# Altium integrated library Linear Technology Power Management Battery Management.IntLib: 626 symbols (part 10 of 56)
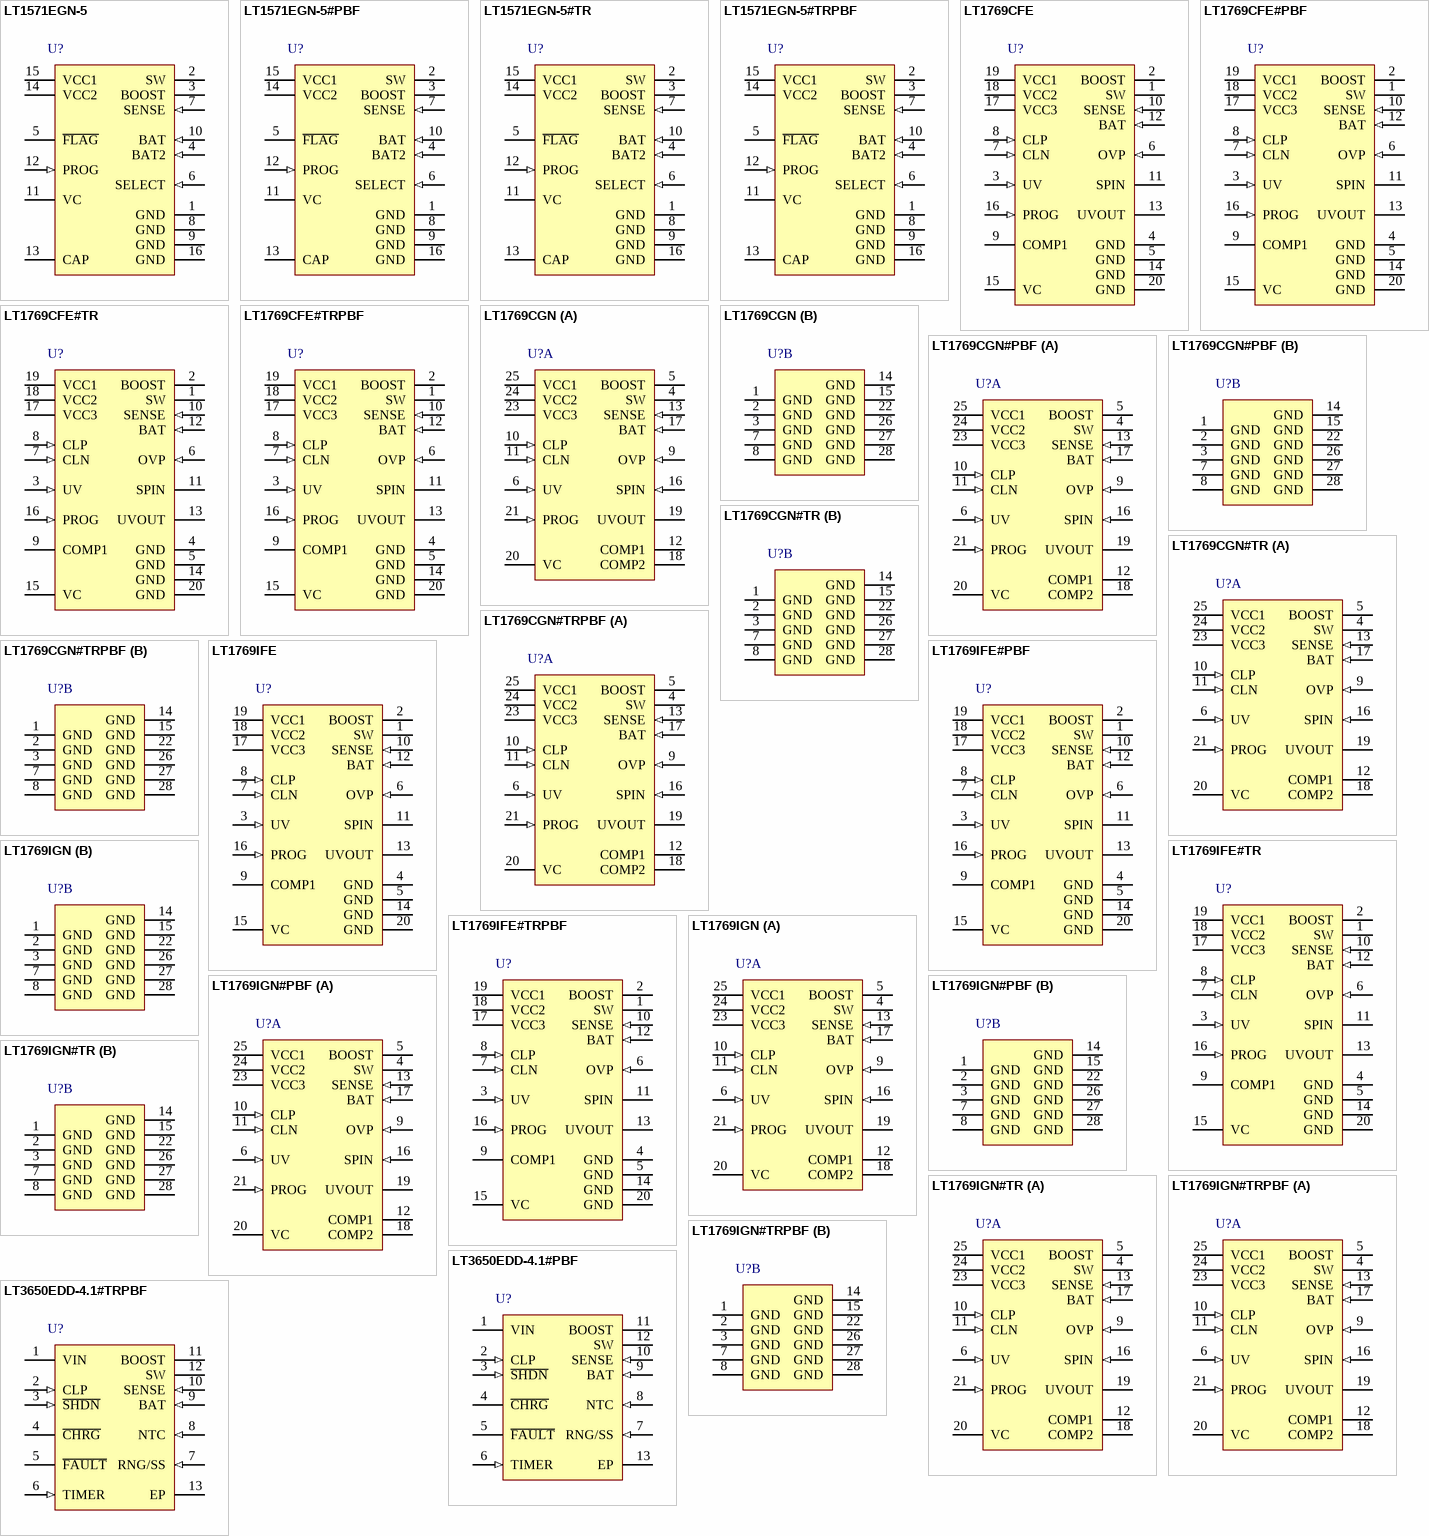
[diagram p31: symbols LT1571EGN-5 to LT3650EDD-4.1#TRPBF]

## LT1769IFE#TRPBF
designator U?
Constant-Current / Constant-Voltage 2 A Battery Charger with Input Current Limiting, 7 to 29 V Vin, 20-pin SOP (FE-20-EPV-CB), -40 to 85 degC, Pb-Free, Tape and Reel; Manufacturer: Linear Technology; PartNumber: LT1769IFE#TRPBF; Battery Chemistry: Li-Ion, Li-Polymer, NiCd, NiMH, Lead Acid; Charge Termination: Microcontroller; Float Voltage: Adj; Max Charge Current(A): 2; Number of Cells: 1 to 4 (Li), 1 to 12 (Ni); Type of Charger: Switching; Vin Max(V): 29; Vin Min(V): 7; DatasheetVersion: Rev. A; PackageVersion: Rev. I, 05/2011; PackageReference: FE-20; PackageDescription: 20-Pin Plastic TSSOP, Body 6.5 x 4.4 mm, Pitch 0.65 mm; Supplier 1: Digi-Key; Supplier Part Number 1: LT1769IFE#TRPBF-ND; Packing: Tape and Reel; RoHS: TRUE; Mounting Technology: Surface Mount; ComponentLink1Description: Manufacturer URL; ComponentLink1URL: http://www.linear.com/; ComponentLink2Description: Datasheet; ComponentLink2URL: http://cds.linear.com/docs/en/datasheet/1769fa.pdf; ComponentLink3Description: Package Specification; ComponentLink3URL: http://cds.linear.com/docs/en/packaging/05081663__J_FE20(CB).pdf
footprint LT-FE-20-EPV-CB_N (SOP, 20-Leads, Body 6.6x4.5mm, Pitch 0.65mm, Thermal Pad 3.86x2.74mm, IPC Medium Density)
footprint LT-FE-20-EPV-CB_L (SOP, 20-Leads, Body 6.6x4.5mm, Pitch 0.65mm, Thermal Pad 3.86x2.74mm, IPC High Density)
footprint LT-FE-20-EPV-CB_M (SOP, 20-Leads, Body 6.6x4.5mm, Pitch 0.65mm, Thermal Pad 3.86x2.74mm, IPC Low Density)
pins: 1 SW "Switch Output. The Schottky catch diode must be placed with very short lead length in close proximity to SW pin and GND.", 2 BOOST "This pin is used to bootstrap and drive the switch power NPN transistor to a low on-voltage for low power dissipation. In Figure 1, VBOOST = VCC + VBAT when switch is on. For lowest IC power dissipation, connect boost diode (See Datasheet)", 3 UV (in) "Undervoltage Lockout Input. The rising threshold is at 6.7V with a hysteresis of 0.5V. Switching stops in undervoltage lockout. When the input supply (normally the wall adapter output) to the IC is removed, the UV pin must (See Datasheet)", 4 GND (power) "Ground Pins. Must be connected to expanded PC lands for proper heat sinking. See Applications Information section for details.", 5 GND (power) "Ground Pins. Must be connected to expanded PC lands for proper heat sinking. See Applications Information section for details.", 6 OVP (in) "This is the input to amplifier VA with a threshold of 2.465V. Typical bias current is about 3nA out of this pin. For charging lithium-ion batteries, VA monitors the battery voltage and reduces charging when battery voltage (See Datasheet)", 7 CLN (in) "This is the negative input to the input current limit amplifier CL1.", 8 CLP (in) "This is the positive input to the input current limit amplifier CL1. The threshold is set at 100mV. When used to limit supply current, a filter is needed to filter out the 200kHz switching noise.", 9 COMP1 "This is the compensation node for the input current limit amplifier CL1. At input adapter current limit, this node rises to 1V. By forcing COMP1 low with an external transistor, amplifier CL1 will be defeated (no adapter (See Datasheet)", 10 SENSE (in) "Current Amplifier CA1 Input. Sensing can be at either terminal of the battery.", 11 SPIN "This pin is for the current amplifier CA1 bias. It must be connected to RS1 as shown in the 2A Lithium Battery Charger (Figure 1).", 12 BAT (in) "Current Amplifier CA1 Input.", 13 UVOUT (oc) "This is an open-collector output for undervoltage lockout status. It stays low in undervoltage state. With an external pull-up resistor, it goes high at valid VCC. Note that the base drive of the open-collector NPN comes (See Datasheet)", 14 GND (power) "Ground Pins. Must be connected to expanded PC lands for proper heat sinking. See Applications Information section for details.", 15 VC "This is the inner loop control signal for the current mode PWM. Switching starts at 0.7V. In normal operation, a higher VC corresponds to higher charge current. A capacitor of at least 0.33mF to GND filters out noise and (See Datasheet)", 16 PROG (in) "This pin is for programming the charge current and for system loop compensation. During normal operation, VPROG stays close to 2.465V. If it is shorted to GND switching will stop. When a microprocessor controlled DAC is used (See Datasheet)", 17 VCC3 (power) "Input Supply. For good bypass, a low ESR capacitor of 15uF or higher is required, with the lead length kept to a minimum. VCC should be between 8V and 28V and at least 3V higher than VBAT. Undervoltage lockout starts and (See Datasheet)", 18 VCC2 (power) "Input Supply. For good bypass, a low ESR capacitor of 15uF or higher is required, with the lead length kept to a minimum. VCC should be between 8V and 28V and at least 3V higher than VBAT. Undervoltage lockout starts and (See Datasheet)", 19 VCC1 (power) "Input Supply. For good bypass, a low ESR capacitor of 15uF or higher is required, with the lead length kept to a minimum. VCC should be between 8V and 28V and at least 3V higher than VBAT. Undervoltage lockout starts and (See Datasheet)", 20 GND (power) "Ground Pins. Must be connected to expanded PC lands for proper heat sinking. See Applications Information section for details."

## LT1769IGN
designator U?
Constant-Current / Constant-Voltage 2 A Battery Charger with Input Current Limiting, 7 to 29 V Vin, 28-pin SOP (GN-28), -40 to 85 degC; Manufacturer: Linear Technology; PartNumber: LT1769IGN; Battery Chemistry: Li-Ion, Li-Polymer, NiCd, NiMH, Lead Acid; Charge Termination: Microcontroller; Float Voltage: Adj; Max Charge Current(A): 2; Number of Cells: 1 to 4 (Li), 1 to 12 (Ni); Type of Charger: Switching; Vin Max(V): 29; Vin Min(V): 7; DatasheetVersion: Rev. A; PackageVersion: Rev. B, 03/2012; PackageReference: GN-28; PackageDescription: 28-Pin Plastic SSOP, Body 9.9 x 3.9 mm, Pitch 0.635 mm; Supplier 1: Digi-Key; Supplier Part Number 1: LT1769IGN-ND; RoHS: FALSE; Mounting Technology: Surface Mount; ComponentLink1Description: Manufacturer URL; ComponentLink1URL: http://www.linear.com/; ComponentLink2Description: Datasheet; ComponentLink2URL: http://cds.linear.com/docs/en/datasheet/1769fa.pdf; ComponentLink3Description: Package Specification; ComponentLink3URL: http://cds.linear.com/docs/en/packaging/05081641_B_GN28.pdf
footprint LT-GN-28_N (SOP, 28-Leads, Body 9.98x3.98mm, Pitch 0.635mm, IPC Medium Density)
footprint LT-GN-28_L (SOP, 28-Leads, Body 9.98x3.98mm, Pitch 0.635mm, IPC High Density)
footprint LT-GN-28_M (SOP, 28-Leads, Body 9.98x3.98mm, Pitch 0.635mm, IPC Low Density)
part A pins: 4 SW "Switch Output. The Schottky catch diode must be placed with very short lead length in close proximity to SW pin and GND", 5 BOOST "This pin is used to bootstrap and drive the switch power NPN transistor to a low on-voltage for low power dissipation. In Figure 1, VBOOST = VCC + VBAT when switch is on. For lowest IC power dissipation, connect boost diode (See Datasheet)", 6 UV (in) "Undervoltage Lockout Input. The rising threshold is at 6.7V with a hysteresis of 0.5V. Switching stops in undervoltage lockout. When the input supply (normally the wall adapter output) to the IC is removed, the UV pin must (See Datasheet)", 9 OVP (in) "This is the input to amplifier VA with a threshold of 2.465V. Typical bias current is about 3nA out of this pin. For charging lithium-ion batteries, VA monitors the battery voltage and reduces charging when battery voltage (See Datasheet)", 10 CLP (in) "This is the positive input to the input current limit amplifier CL1. The threshold is set at 100mV. When used to limit supply current, a filter is needed to filter out the 200kHz switching noise.", 11 CLN (in) "This is the negative input to the input current limit amplifier CL1.", 12 COMP1 "This is the compensation node for the input current limit amplifier CL1. At input adapter current limit, this node rises to 1V. By forcing COMP1 low with an external transistor, amplifier CL1 will be defeated(no adapter (See Datasheet)", 13 SENSE (in) "Current Amplifier CA1 Input. Sensing can be at either terminal of the battery.", 16 SPIN (in) "This pin is for the current amplifier CA1 bias. It must be connected to RS1 as shown in the 2A Lithium Battery Charger (Figure 1).", 17 BAT (in) "Current Amplifier CA1 Input", 18 COMP2 "This is also a compensation node for amplifier CL1. Voltage on this pin rises to 2.8V at input adapter current limit and/or at constant-voltage charging.", 19 UVOUT (oc) "This is an open-collector output for undervoltage lockout status. It stays low in undervoltage state. With an external pull-up resistor, it goes high at valid VCC. Note that the base drive of the open-collector NPN comes (See Datasheet)", 20 VC "This is the inner loop control signal for the current mode PWM. Switching starts at 0.7V. In normal operation, a higher VC corresponds to higher charge current. A capacitor of at least 0.33mF to GND filters out noise and (See Datasheet)", 21 PROG (in) "This pin is for programming the charge current and for system loop compensation. During normal operation, VPROG stays close to 2.465V. If it is shorted to GND switching will stop. When a microprocessor controlled DAC is used (See Datasheet)", 23 VCC3 (power) "Input Supply. For good bypass, a low ESR capacitor of 15mF or higher is required, with the lead length kept to a minimum. VCC should be between 8V and 28V and at least 3V higher than VBAT. Undervoltage lockout starts and (See Datasheet)", 24 VCC2 (power) "Input Supply. For good bypass, a low ESR capacitor of 15mF or higher is required, with the lead length kept to a minimum. VCC should be between 8V and 28V and at least 3V higher than VBAT. Undervoltage lockout starts and (See Datasheet)", 25 VCC1 (power) "Input Supply. For good bypass, a low ESR capacitor of 15mF or higher is required, with the lead length kept to a minimum. VCC should be between 8V and 28V and at least 3V higher than VBAT. Undervoltage lockout starts and (See Datasheet)"
part B pins: 1 GND (power) "Ground Pins. Must be connected to expanded PC lands for proper heat sinking. See Applications Information section for details.", 2 GND (power) "Ground Pins. Must be connected to expanded PC lands for proper heat sinking. See Applications Information section for details.", 3 GND (power) "Ground Pins. Must be connected to expanded PC lands for proper heat sinking. See Applications Information section for details.", 7 GND (power) "Ground Pins. Must be connected to expanded PC lands for proper heat sinking. See Applications Information section for details.", 8 GND (power) "Ground Pins. Must be connected to expanded PC lands for proper heat sinking. See Applications Information section for details.", 14 GND (power) "Ground Pins. Must be connected to expanded PC lands for proper heat sinking. See Applications Information section for details.", 15 GND (power) "Ground Pins. Must be connected to expanded PC lands for proper heat sinking. See Applications Information section for details.", 22 GND (power) "Ground Pins. Must be connected to expanded PC lands for proper heat sinking. See Applications Information section for details.", 26 GND (power) "Ground Pins. Must be connected to expanded PC lands for proper heat sinking. See Applications Information section for details.", 27 GND (power) "Ground Pins. Must be connected to expanded PC lands for proper heat sinking. See Applications Information section for details.", 28 GND (power) "Ground Pins. Must be connected to expanded PC lands for proper heat sinking. See Applications Information section for details."

## LT1769IGN#PBF
designator U?
Constant-Current / Constant-Voltage 2 A Battery Charger with Input Current Limiting, 7 to 29 V Vin, 28-pin SOP (GN-28), -40 to 85 degC, Pb-Free; Manufacturer: Linear Technology; PartNumber: LT1769IGN#PBF; Battery Chemistry: Li-Ion, Li-Polymer, NiCd, NiMH, Lead Acid; Charge Termination: Microcontroller; Float Voltage: Adj; Max Charge Current(A): 2; Number of Cells: 1 to 4 (Li), 1 to 12 (Ni); Type of Charger: Switching; Vin Max(V): 29; Vin Min(V): 7; DatasheetVersion: Rev. A; PackageVersion: Rev. B, 03/2012; PackageReference: GN-28; PackageDescription: 28-Pin Plastic SSOP, Body 9.9 x 3.9 mm, Pitch 0.635 mm; Supplier 1: Digi-Key; Supplier Part Number 1: LT1769IGN#PBF-ND; Supplier 2: Newark; Supplier Part Number 2: 58M1016; RoHS: TRUE; Mounting Technology: Surface Mount; ComponentLink1Description: Manufacturer URL; ComponentLink1URL: http://www.linear.com/; ComponentLink2Description: Datasheet; ComponentLink2URL: http://cds.linear.com/docs/en/datasheet/1769fa.pdf; ComponentLink3Description: Package Specification; ComponentLink3URL: http://cds.linear.com/docs/en/packaging/05081641_B_GN28.pdf
footprint LT-GN-28_N (SOP, 28-Leads, Body 9.98x3.98mm, Pitch 0.635mm, IPC Medium Density)
footprint LT-GN-28_L (SOP, 28-Leads, Body 9.98x3.98mm, Pitch 0.635mm, IPC High Density)
footprint LT-GN-28_M (SOP, 28-Leads, Body 9.98x3.98mm, Pitch 0.635mm, IPC Low Density)
part A pins: 4 SW "Switch Output. The Schottky catch diode must be placed with very short lead length in close proximity to SW pin and GND", 5 BOOST "This pin is used to bootstrap and drive the switch power NPN transistor to a low on-voltage for low power dissipation. In Figure 1, VBOOST = VCC + VBAT when switch is on. For lowest IC power dissipation, connect boost diode (See Datasheet)", 6 UV (in) "Undervoltage Lockout Input. The rising threshold is at 6.7V with a hysteresis of 0.5V. Switching stops in undervoltage lockout. When the input supply (normally the wall adapter output) to the IC is removed, the UV pin must (See Datasheet)", 9 OVP (in) "This is the input to amplifier VA with a threshold of 2.465V. Typical bias current is about 3nA out of this pin. For charging lithium-ion batteries, VA monitors the battery voltage and reduces charging when battery voltage (See Datasheet)", 10 CLP (in) "This is the positive input to the input current limit amplifier CL1. The threshold is set at 100mV. When used to limit supply current, a filter is needed to filter out the 200kHz switching noise.", 11 CLN (in) "This is the negative input to the input current limit amplifier CL1.", 12 COMP1 "This is the compensation node for the input current limit amplifier CL1. At input adapter current limit, this node rises to 1V. By forcing COMP1 low with an external transistor, amplifier CL1 will be defeated(no adapter (See Datasheet)", 13 SENSE (in) "Current Amplifier CA1 Input. Sensing can be at either terminal of the battery.", 16 SPIN (in) "This pin is for the current amplifier CA1 bias. It must be connected to RS1 as shown in the 2A Lithium Battery Charger (Figure 1).", 17 BAT (in) "Current Amplifier CA1 Input", 18 COMP2 "This is also a compensation node for amplifier CL1. Voltage on this pin rises to 2.8V at input adapter current limit and/or at constant-voltage charging.", 19 UVOUT (oc) "This is an open-collector output for undervoltage lockout status. It stays low in undervoltage state. With an external pull-up resistor, it goes high at valid VCC. Note that the base drive of the open-collector NPN comes (See Datasheet)", 20 VC "This is the inner loop control signal for the current mode PWM. Switching starts at 0.7V. In normal operation, a higher VC corresponds to higher charge current. A capacitor of at least 0.33mF to GND filters out noise and (See Datasheet)", 21 PROG (in) "This pin is for programming the charge current and for system loop compensation. During normal operation, VPROG stays close to 2.465V. If it is shorted to GND switching will stop. When a microprocessor controlled DAC is used (See Datasheet)", 23 VCC3 (power) "Input Supply. For good bypass, a low ESR capacitor of 15mF or higher is required, with the lead length kept to a minimum. VCC should be between 8V and 28V and at least 3V higher than VBAT. Undervoltage lockout starts and (See Datasheet)", 24 VCC2 (power) "Input Supply. For good bypass, a low ESR capacitor of 15mF or higher is required, with the lead length kept to a minimum. VCC should be between 8V and 28V and at least 3V higher than VBAT. Undervoltage lockout starts and (See Datasheet)", 25 VCC1 (power) "Input Supply. For good bypass, a low ESR capacitor of 15mF or higher is required, with the lead length kept to a minimum. VCC should be between 8V and 28V and at least 3V higher than VBAT. Undervoltage lockout starts and (See Datasheet)"
part B pins: 1 GND (power) "Ground Pins. Must be connected to expanded PC lands for proper heat sinking. See Applications Information section for details.", 2 GND (power) "Ground Pins. Must be connected to expanded PC lands for proper heat sinking. See Applications Information section for details.", 3 GND (power) "Ground Pins. Must be connected to expanded PC lands for proper heat sinking. See Applications Information section for details.", 7 GND (power) "Ground Pins. Must be connected to expanded PC lands for proper heat sinking. See Applications Information section for details.", 8 GND (power) "Ground Pins. Must be connected to expanded PC lands for proper heat sinking. See Applications Information section for details.", 14 GND (power) "Ground Pins. Must be connected to expanded PC lands for proper heat sinking. See Applications Information section for details.", 15 GND (power) "Ground Pins. Must be connected to expanded PC lands for proper heat sinking. See Applications Information section for details.", 22 GND (power) "Ground Pins. Must be connected to expanded PC lands for proper heat sinking. See Applications Information section for details.", 26 GND (power) "Ground Pins. Must be connected to expanded PC lands for proper heat sinking. See Applications Information section for details.", 27 GND (power) "Ground Pins. Must be connected to expanded PC lands for proper heat sinking. See Applications Information section for details.", 28 GND (power) "Ground Pins. Must be connected to expanded PC lands for proper heat sinking. See Applications Information section for details."

## LT1769IGN#TR
designator U?
Constant-Current / Constant-Voltage 2 A Battery Charger with Input Current Limiting, 7 to 29 V Vin, 28-pin SOP (GN-28), -40 to 85 degC, Tape and Reel; Manufacturer: Linear Technology; PartNumber: LT1769IGN#TR; Battery Chemistry: Li-Ion, Li-Polymer, NiCd, NiMH, Lead Acid; Charge Termination: Microcontroller; Float Voltage: Adj; Max Charge Current(A): 2; Number of Cells: 1 to 4 (Li), 1 to 12 (Ni); Type of Charger: Switching; Vin Max(V): 29; Vin Min(V): 7; DatasheetVersion: Rev. A; PackageVersion: Rev. B, 03/2012; PackageReference: GN-28; PackageDescription: 28-Pin Plastic SSOP, Body 9.9 x 3.9 mm, Pitch 0.635 mm; Supplier 1: Digi-Key; Supplier Part Number 1: LT1769IGN#TR-ND; Packing: Tape and Reel; RoHS: FALSE; Mounting Technology: Surface Mount; ComponentLink1Description: Manufacturer URL; ComponentLink1URL: http://www.linear.com/; ComponentLink2Description: Datasheet; ComponentLink2URL: http://cds.linear.com/docs/en/datasheet/1769fa.pdf; ComponentLink3Description: Package Specification; ComponentLink3URL: http://cds.linear.com/docs/en/packaging/05081641_B_GN28.pdf
footprint LT-GN-28_N (SOP, 28-Leads, Body 9.98x3.98mm, Pitch 0.635mm, IPC Medium Density)
footprint LT-GN-28_L (SOP, 28-Leads, Body 9.98x3.98mm, Pitch 0.635mm, IPC High Density)
footprint LT-GN-28_M (SOP, 28-Leads, Body 9.98x3.98mm, Pitch 0.635mm, IPC Low Density)
part A pins: 4 SW "Switch Output. The Schottky catch diode must be placed with very short lead length in close proximity to SW pin and GND", 5 BOOST "This pin is used to bootstrap and drive the switch power NPN transistor to a low on-voltage for low power dissipation. In Figure 1, VBOOST = VCC + VBAT when switch is on. For lowest IC power dissipation, connect boost diode (See Datasheet)", 6 UV (in) "Undervoltage Lockout Input. The rising threshold is at 6.7V with a hysteresis of 0.5V. Switching stops in undervoltage lockout. When the input supply (normally the wall adapter output) to the IC is removed, the UV pin must (See Datasheet)", 9 OVP (in) "This is the input to amplifier VA with a threshold of 2.465V. Typical bias current is about 3nA out of this pin. For charging lithium-ion batteries, VA monitors the battery voltage and reduces charging when battery voltage (See Datasheet)", 10 CLP (in) "This is the positive input to the input current limit amplifier CL1. The threshold is set at 100mV. When used to limit supply current, a filter is needed to filter out the 200kHz switching noise.", 11 CLN (in) "This is the negative input to the input current limit amplifier CL1.", 12 COMP1 "This is the compensation node for the input current limit amplifier CL1. At input adapter current limit, this node rises to 1V. By forcing COMP1 low with an external transistor, amplifier CL1 will be defeated(no adapter (See Datasheet)", 13 SENSE (in) "Current Amplifier CA1 Input. Sensing can be at either terminal of the battery.", 16 SPIN (in) "This pin is for the current amplifier CA1 bias. It must be connected to RS1 as shown in the 2A Lithium Battery Charger (Figure 1).", 17 BAT (in) "Current Amplifier CA1 Input", 18 COMP2 "This is also a compensation node for amplifier CL1. Voltage on this pin rises to 2.8V at input adapter current limit and/or at constant-voltage charging.", 19 UVOUT (oc) "This is an open-collector output for undervoltage lockout status. It stays low in undervoltage state. With an external pull-up resistor, it goes high at valid VCC. Note that the base drive of the open-collector NPN comes (See Datasheet)", 20 VC "This is the inner loop control signal for the current mode PWM. Switching starts at 0.7V. In normal operation, a higher VC corresponds to higher charge current. A capacitor of at least 0.33mF to GND filters out noise and (See Datasheet)", 21 PROG (in) "This pin is for programming the charge current and for system loop compensation. During normal operation, VPROG stays close to 2.465V. If it is shorted to GND switching will stop. When a microprocessor controlled DAC is used (See Datasheet)", 23 VCC3 (power) "Input Supply. For good bypass, a low ESR capacitor of 15mF or higher is required, with the lead length kept to a minimum. VCC should be between 8V and 28V and at least 3V higher than VBAT. Undervoltage lockout starts and (See Datasheet)", 24 VCC2 (power) "Input Supply. For good bypass, a low ESR capacitor of 15mF or higher is required, with the lead length kept to a minimum. VCC should be between 8V and 28V and at least 3V higher than VBAT. Undervoltage lockout starts and (See Datasheet)", 25 VCC1 (power) "Input Supply. For good bypass, a low ESR capacitor of 15mF or higher is required, with the lead length kept to a minimum. VCC should be between 8V and 28V and at least 3V higher than VBAT. Undervoltage lockout starts and (See Datasheet)"
part B pins: 1 GND (power) "Ground Pins. Must be connected to expanded PC lands for proper heat sinking. See Applications Information section for details.", 2 GND (power) "Ground Pins. Must be connected to expanded PC lands for proper heat sinking. See Applications Information section for details.", 3 GND (power) "Ground Pins. Must be connected to expanded PC lands for proper heat sinking. See Applications Information section for details.", 7 GND (power) "Ground Pins. Must be connected to expanded PC lands for proper heat sinking. See Applications Information section for details.", 8 GND (power) "Ground Pins. Must be connected to expanded PC lands for proper heat sinking. See Applications Information section for details.", 14 GND (power) "Ground Pins. Must be connected to expanded PC lands for proper heat sinking. See Applications Information section for details.", 15 GND (power) "Ground Pins. Must be connected to expanded PC lands for proper heat sinking. See Applications Information section for details.", 22 GND (power) "Ground Pins. Must be connected to expanded PC lands for proper heat sinking. See Applications Information section for details.", 26 GND (power) "Ground Pins. Must be connected to expanded PC lands for proper heat sinking. See Applications Information section for details.", 27 GND (power) "Ground Pins. Must be connected to expanded PC lands for proper heat sinking. See Applications Information section for details.", 28 GND (power) "Ground Pins. Must be connected to expanded PC lands for proper heat sinking. See Applications Information section for details."

## LT1769IGN#TRPBF
designator U?
Constant-Current / Constant-Voltage 2 A Battery Charger with Input Current Limiting, 7 to 29 V Vin, 28-pin SOP (GN-28), -40 to 85 degC, Pb-Free, Tape and Reel; Manufacturer: Linear Technology; PartNumber: LT1769IGN#TRPBF; Battery Chemistry: Li-Ion, Li-Polymer, NiCd, NiMH, Lead Acid; Charge Termination: Microcontroller; Float Voltage: Adj; Max Charge Current(A): 2; Number of Cells: 1 to 4 (Li), 1 to 12 (Ni); Type of Charger: Switching; Vin Max(V): 29; Vin Min(V): 7; DatasheetVersion: Rev. A; PackageVersion: Rev. B, 03/2012; PackageReference: GN-28; PackageDescription: 28-Pin Plastic SSOP, Body 9.9 x 3.9 mm, Pitch 0.635 mm; Supplier 1: Digi-Key; Supplier Part Number 1: LT1769IGN#TRPBF-ND; Packing: Tape and Reel; RoHS: TRUE; Mounting Technology: Surface Mount; ComponentLink1Description: Manufacturer URL; ComponentLink1URL: http://www.linear.com/; ComponentLink2Description: Datasheet; ComponentLink2URL: http://cds.linear.com/docs/en/datasheet/1769fa.pdf; ComponentLink3Description: Package Specification; ComponentLink3URL: http://cds.linear.com/docs/en/packaging/05081641_B_GN28.pdf
footprint LT-GN-28_N (SOP, 28-Leads, Body 9.98x3.98mm, Pitch 0.635mm, IPC Medium Density)
footprint LT-GN-28_L (SOP, 28-Leads, Body 9.98x3.98mm, Pitch 0.635mm, IPC High Density)
footprint LT-GN-28_M (SOP, 28-Leads, Body 9.98x3.98mm, Pitch 0.635mm, IPC Low Density)
part A pins: 4 SW "Switch Output. The Schottky catch diode must be placed with very short lead length in close proximity to SW pin and GND", 5 BOOST "This pin is used to bootstrap and drive the switch power NPN transistor to a low on-voltage for low power dissipation. In Figure 1, VBOOST = VCC + VBAT when switch is on. For lowest IC power dissipation, connect boost diode (See Datasheet)", 6 UV (in) "Undervoltage Lockout Input. The rising threshold is at 6.7V with a hysteresis of 0.5V. Switching stops in undervoltage lockout. When the input supply (normally the wall adapter output) to the IC is removed, the UV pin must (See Datasheet)", 9 OVP (in) "This is the input to amplifier VA with a threshold of 2.465V. Typical bias current is about 3nA out of this pin. For charging lithium-ion batteries, VA monitors the battery voltage and reduces charging when battery voltage (See Datasheet)", 10 CLP (in) "This is the positive input to the input current limit amplifier CL1. The threshold is set at 100mV. When used to limit supply current, a filter is needed to filter out the 200kHz switching noise.", 11 CLN (in) "This is the negative input to the input current limit amplifier CL1.", 12 COMP1 "This is the compensation node for the input current limit amplifier CL1. At input adapter current limit, this node rises to 1V. By forcing COMP1 low with an external transistor, amplifier CL1 will be defeated(no adapter (See Datasheet)", 13 SENSE (in) "Current Amplifier CA1 Input. Sensing can be at either terminal of the battery.", 16 SPIN (in) "This pin is for the current amplifier CA1 bias. It must be connected to RS1 as shown in the 2A Lithium Battery Charger (Figure 1).", 17 BAT (in) "Current Amplifier CA1 Input", 18 COMP2 "This is also a compensation node for amplifier CL1. Voltage on this pin rises to 2.8V at input adapter current limit and/or at constant-voltage charging.", 19 UVOUT (oc) "This is an open-collector output for undervoltage lockout status. It stays low in undervoltage state. With an external pull-up resistor, it goes high at valid VCC. Note that the base drive of the open-collector NPN comes (See Datasheet)", 20 VC "This is the inner loop control signal for the current mode PWM. Switching starts at 0.7V. In normal operation, a higher VC corresponds to higher charge current. A capacitor of at least 0.33mF to GND filters out noise and (See Datasheet)", 21 PROG (in) "This pin is for programming the charge current and for system loop compensation. During normal operation, VPROG stays close to 2.465V. If it is shorted to GND switching will stop. When a microprocessor controlled DAC is used (See Datasheet)", 23 VCC3 (power) "Input Supply. For good bypass, a low ESR capacitor of 15mF or higher is required, with the lead length kept to a minimum. VCC should be between 8V and 28V and at least 3V higher than VBAT. Undervoltage lockout starts and (See Datasheet)", 24 VCC2 (power) "Input Supply. For good bypass, a low ESR capacitor of 15mF or higher is required, with the lead length kept to a minimum. VCC should be between 8V and 28V and at least 3V higher than VBAT. Undervoltage lockout starts and (See Datasheet)", 25 VCC1 (power) "Input Supply. For good bypass, a low ESR capacitor of 15mF or higher is required, with the lead length kept to a minimum. VCC should be between 8V and 28V and at least 3V higher than VBAT. Undervoltage lockout starts and (See Datasheet)"
part B pins: 1 GND (power) "Ground Pins. Must be connected to expanded PC lands for proper heat sinking. See Applications Information section for details.", 2 GND (power) "Ground Pins. Must be connected to expanded PC lands for proper heat sinking. See Applications Information section for details.", 3 GND (power) "Ground Pins. Must be connected to expanded PC lands for proper heat sinking. See Applications Information section for details.", 7 GND (power) "Ground Pins. Must be connected to expanded PC lands for proper heat sinking. See Applications Information section for details.", 8 GND (power) "Ground Pins. Must be connected to expanded PC lands for proper heat sinking. See Applications Information section for details.", 14 GND (power) "Ground Pins. Must be connected to expanded PC lands for proper heat sinking. See Applications Information section for details.", 15 GND (power) "Ground Pins. Must be connected to expanded PC lands for proper heat sinking. See Applications Information section for details.", 22 GND (power) "Ground Pins. Must be connected to expanded PC lands for proper heat sinking. See Applications Information section for details.", 26 GND (power) "Ground Pins. Must be connected to expanded PC lands for proper heat sinking. See Applications Information section for details.", 27 GND (power) "Ground Pins. Must be connected to expanded PC lands for proper heat sinking. See Applications Information section for details.", 28 GND (power) "Ground Pins. Must be connected to expanded PC lands for proper heat sinking. See Applications Information section for details."

## LT3650EDD-4.1#PBF
designator U?
High Voltage 2 Amplifier Monolithic 1-Cell Li-Ion Battery Charger, 4.75 to 32 V Vin, 12-pin SON (DD-12), -40 to 85 degC, Pb-Free; Manufacturer: Linear Technology; PartNumber: LT3650EDD-4.1#PBF; Battery Chemistry: Li-Ion, Li-Polymer; Charge Termination: C/10, Timer; Float Voltage: 4.1 V; Max Charge Current(A): 2; Number of Cells: 1; Type of Charger: Switching; Vin Max(V): 32; Vin Min(V): 4.75; DatasheetVersion: Rev. C; PackageVersion: Rev. A, 06/2010; PackageReference: DD-12; PackageDescription: 12-Pin Plastic DFN, Body 3 x 3 mm, Pitch 0.45 mm; Supplier 1: Digi-Key; Supplier Part Number 1: LT3650EDD-4.1#PBF-ND; Supplier 2: Farnell; Supplier Part Number 2: 2295366; Supplier 3: Newark; Supplier Part Number 3: 08R2338; RoHS: TRUE; Mounting Technology: Surface Mount; ComponentLink1Description: Manufacturer URL; ComponentLink1URL: http://www.linear.com/; ComponentLink2Description: Datasheet; ComponentLink2URL: http://cds.linear.com/docs/en/datasheet/36504142fc.pdf; ComponentLink3Description: Package Specification; ComponentLink3URL: http://cds.linear.com/docs/en/packaging/DFN_12_05-08-1725.pdf
footprint LT-DD-12_V (SON, 12-Leads, Body 3x3mm, Pitch 0.45mm, Thermal Pad 2.38x1.65mm)
pins: 1 VIN (power) "Charger Input Supply. VIN pin operating range is 4.75V to 32V. VIN >= 7.5V or (VBOOST - VSW) > 2V is required for start-up. IVIN = 85uA after charge termination", 2 CLP (in) "System Current Limit Input. System current levels can be monitored by connecting the input power supply to the CLP pin and connecting a sense resistor from the CLP pin to the VIN pin. Additional system load is drawn from the (See Datasheet)", 3 ~{SHDN} (in) "Precision Threshold Shutdown Pin. The enable threshold is 1.225V (rising), with 120mV of input hysteresis. When in shutdown mode, all charging functions are disabled. The precision threshold allows use of the S\H\D\N\ pin to (See Datasheet)", 4 ~{CHRG} (hiz) "Open-Collector Charger Status Output; typically pulled up through a resistor to a reference voltage. This status pin can be pulled up to voltages as high as VIN when disabled, and can sink currents up to 10mA when enabled. (See Datasheet)", 5 ~{FAULT} (hiz) "Open-Collector Fault Status Output; typically pulled up through a resistor to a reference voltage. This status pin can be pulled up to voltages as high as VIN when disabled, and can sink currents up to 10mA when enabled. (See Datasheet)", 6 TIMER (in) "End-Of-Cycle Timer Programming Pin. If a timer-based charge termination is desired, connect a capacitor from this pin to ground. Full charge end-ofcycle time (in hours) is programmed with this capacitor following the (See Datasheet)", 7 RNG/SS (in) "Charge Current Programming Pin. This pin allows a dynamic adjustment of the maximum charge current, and can be used to employ a soft-start function. Maximum charge current is adjusted by setting the voltage on this pin, such (See Datasheet)", 8 NTC (in) "Battery Temperature Monitor Pin. This pin is the input to the NTC (negative temperature coefficient) thermistor temperature monitoring circuit. This function is enabled by connecting a 10kohm, B = 3380 NTC thermistor from (See Datasheet)", 9 BAT (in) "Battery Voltage Monitor Pin. Connect 10uF decoupling capacitance (CBAT) from this pin to ground. Depending on application requirements, larger value decoupling capacitors may be required (see the Application Information (See Datasheet)", 10 SENSE (in) "Charge Current Sense Pin. Connect the more positive voltage end of the inductor sense resistor (RSENSE) to the SENSE pin and the other end to the BAT pin. The voltage across this resistor sets the average charge current. The (See Datasheet)", 11 BOOST "Bootstrapped Supply Rail for Switch Drive. This pin facilitates saturation of the switch transistor. Connect a 1uF or greater capacitor from the BOOST pin to the SW pin. Operating range of this pin is 0V to 4.5V, referenced (See Datasheet)", 12 SW (power) "Switch Output Pin. This pin is the output of the charger switch, and corresponds to the emitter of the switch transistor. When enabled, the switch shorts the SW pin to the VIN supply. The drive circuitry for this switch is (See Datasheet)", 13 EP (power) "Ground Reference and Backside Exposed Lead Frame Thermal Connection. Solder the exposed lead frame to the PCB ground plane"

## LT3650EDD-4.1#TRPBF
designator U?
High Voltage 2 Amplifier Monolithic 1-Cell Li-Ion Battery Charger, 4.75 to 32 V Vin, 12-pin SON (DD-12), -40 to 85 degC, Pb-Free, Tape and Reel; Manufacturer: Linear Technology; PartNumber: LT3650EDD-4.1#TRPBF; Battery Chemistry: Li-Ion, Li-Polymer; Charge Termination: C/10, Timer; Float Voltage: 4.1 V; Max Charge Current(A): 2; Number of Cells: 1; Type of Charger: Switching; Vin Max(V): 32; Vin Min(V): 4.75; DatasheetVersion: Rev. C; PackageVersion: Rev. A, 06/2010; PackageReference: DD-12; PackageDescription: 12-Pin Plastic DFN, Body 3 x 3 mm, Pitch 0.45 mm; Supplier 1: Digi-Key; Supplier Part Number 1: LT3650EDD-4.1#TRPBF-ND; Supplier 2: Newark; Supplier Part Number 2: 24R8707; Packing: Tape and Reel; RoHS: TRUE; Mounting Technology: Surface Mount; ComponentLink1Description: Manufacturer URL; ComponentLink1URL: http://www.linear.com/; ComponentLink2Description: Datasheet; ComponentLink2URL: http://cds.linear.com/docs/en/datasheet/36504142fc.pdf; ComponentLink3Description: Package Specification; ComponentLink3URL: http://cds.linear.com/docs/en/packaging/DFN_12_05-08-1725.pdf
footprint LT-DD-12_V (SON, 12-Leads, Body 3x3mm, Pitch 0.45mm, Thermal Pad 2.38x1.65mm)
pins: 1 VIN (power) "Charger Input Supply. VIN pin operating range is 4.75V to 32V. VIN >= 7.5V or (VBOOST - VSW) > 2V is required for start-up. IVIN = 85uA after charge termination", 2 CLP (in) "System Current Limit Input. System current levels can be monitored by connecting the input power supply to the CLP pin and connecting a sense resistor from the CLP pin to the VIN pin. Additional system load is drawn from the (See Datasheet)", 3 ~{SHDN} (in) "Precision Threshold Shutdown Pin. The enable threshold is 1.225V (rising), with 120mV of input hysteresis. When in shutdown mode, all charging functions are disabled. The precision threshold allows use of the S\H\D\N\ pin to (See Datasheet)", 4 ~{CHRG} (hiz) "Open-Collector Charger Status Output; typically pulled up through a resistor to a reference voltage. This status pin can be pulled up to voltages as high as VIN when disabled, and can sink currents up to 10mA when enabled. (See Datasheet)", 5 ~{FAULT} (hiz) "Open-Collector Fault Status Output; typically pulled up through a resistor to a reference voltage. This status pin can be pulled up to voltages as high as VIN when disabled, and can sink currents up to 10mA when enabled. (See Datasheet)", 6 TIMER (in) "End-Of-Cycle Timer Programming Pin. If a timer-based charge termination is desired, connect a capacitor from this pin to ground. Full charge end-ofcycle time (in hours) is programmed with this capacitor following the (See Datasheet)", 7 RNG/SS (in) "Charge Current Programming Pin. This pin allows a dynamic adjustment of the maximum charge current, and can be used to employ a soft-start function. Maximum charge current is adjusted by setting the voltage on this pin, such (See Datasheet)", 8 NTC (in) "Battery Temperature Monitor Pin. This pin is the input to the NTC (negative temperature coefficient) thermistor temperature monitoring circuit. This function is enabled by connecting a 10kohm, B = 3380 NTC thermistor from (See Datasheet)", 9 BAT (in) "Battery Voltage Monitor Pin. Connect 10uF decoupling capacitance (CBAT) from this pin to ground. Depending on application requirements, larger value decoupling capacitors may be required (see the Application Information (See Datasheet)", 10 SENSE (in) "Charge Current Sense Pin. Connect the more positive voltage end of the inductor sense resistor (RSENSE) to the SENSE pin and the other end to the BAT pin. The voltage across this resistor sets the average charge current. The (See Datasheet)", 11 BOOST "Bootstrapped Supply Rail for Switch Drive. This pin facilitates saturation of the switch transistor. Connect a 1uF or greater capacitor from the BOOST pin to the SW pin. Operating range of this pin is 0V to 4.5V, referenced (See Datasheet)", 12 SW (power) "Switch Output Pin. This pin is the output of the charger switch, and corresponds to the emitter of the switch transistor. When enabled, the switch shorts the SW pin to the VIN supply. The drive circuitry for this switch is (See Datasheet)", 13 EP (power) "Ground Reference and Backside Exposed Lead Frame Thermal Connection. Solder the exposed lead frame to the PCB ground plane"

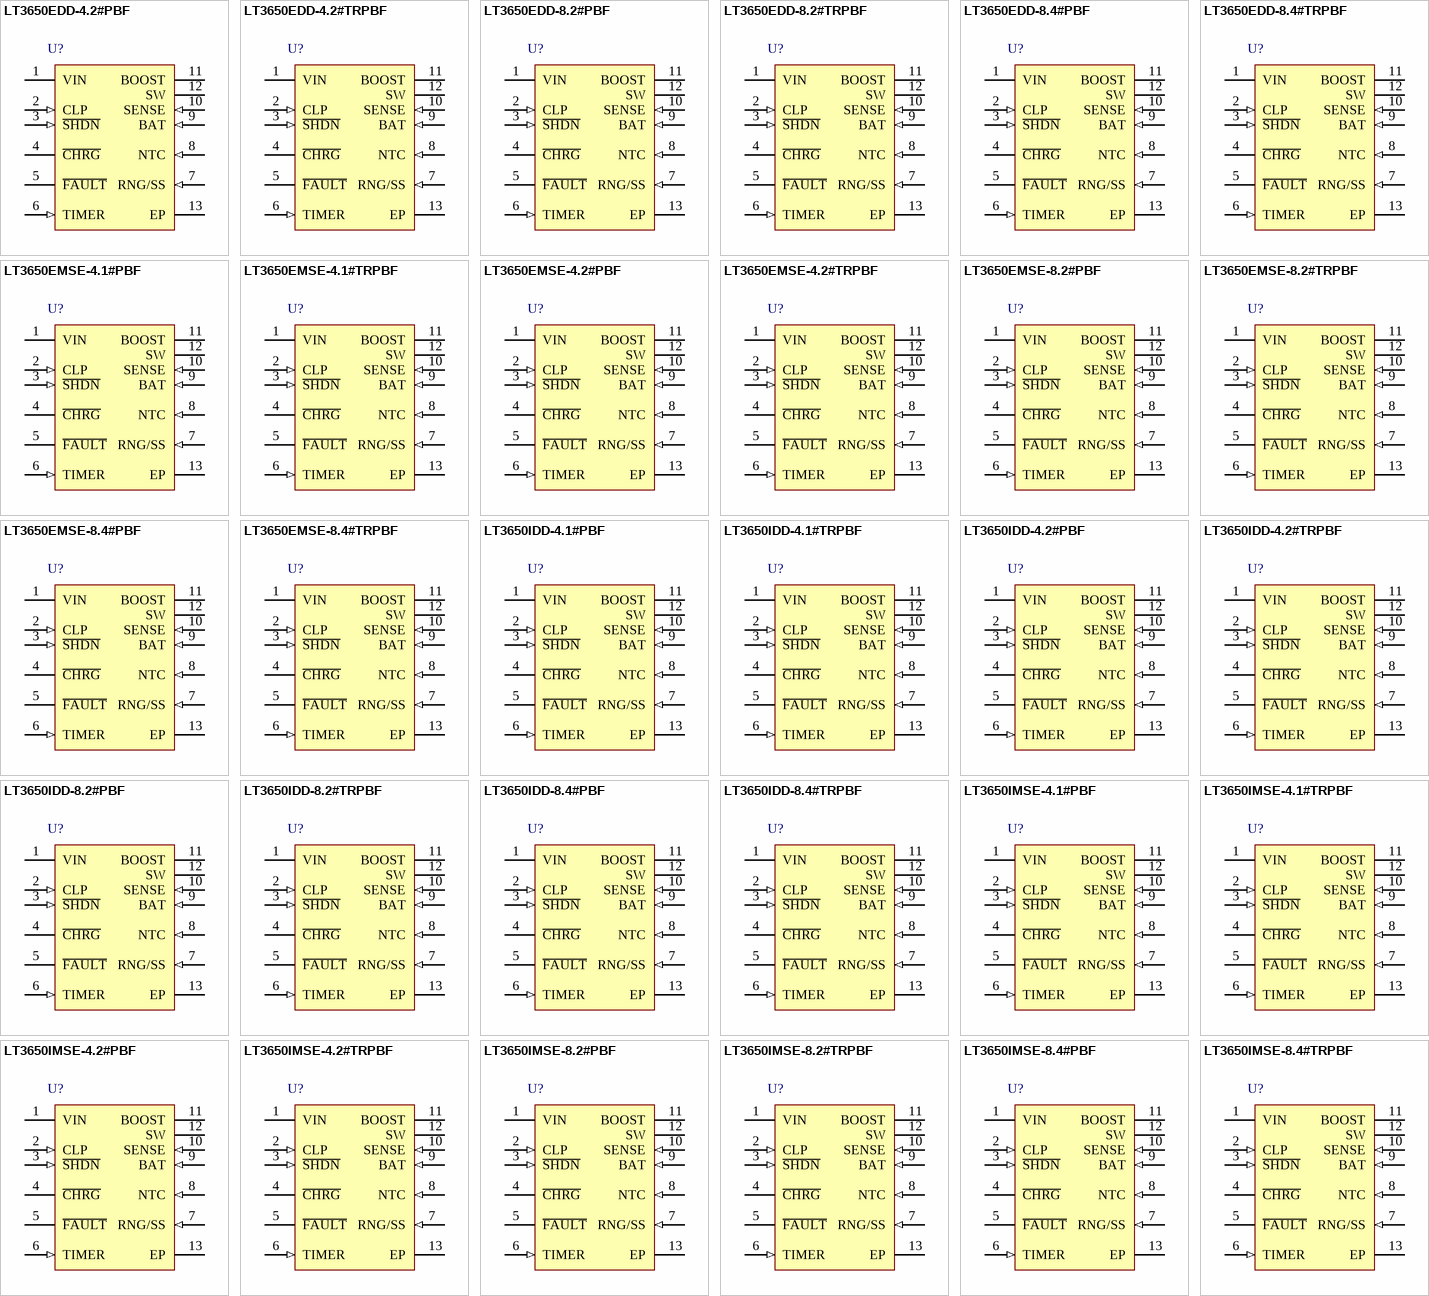
[diagram p4: symbols LT3650EDD-4.2#PBF to LT3650IMSE-8.4#TRPBF]

## LT3650EDD-4.2#PBF
designator U?
High Voltage 2 Amplifier Monolithic 1-Cell Li-Ion Battery Charger, 4.75 to 32 V Vin, 12-pin SON (DD-12), -40 to 85 degC, Pb-Free; Manufacturer: Linear Technology; PartNumber: LT3650EDD-4.2#PBF; Battery Chemistry: Li-Ion, Li-Polymer; Charge Termination: C/10, Timer; Float Voltage: 4.2 V; Max Charge Current(A): 2; Number of Cells: 1; Type of Charger: Switching; Vin Max(V): 32; Vin Min(V): 4.75; DatasheetVersion: Rev. C; PackageVersion: Rev. A, 06/2010; PackageReference: DD-12; PackageDescription: 12-Pin Plastic DFN, Body 3 x 3 mm, Pitch 0.45 mm; Supplier 1: Digi-Key; Supplier Part Number 1: LT3650EDD-4.2#PBF-ND; Supplier 2: Newark; Supplier Part Number 2: 08R2339; RoHS: TRUE; Mounting Technology: Surface Mount; ComponentLink1Description: Manufacturer URL; ComponentLink1URL: http://www.linear.com/; ComponentLink2Description: Datasheet; ComponentLink2URL: http://cds.linear.com/docs/en/datasheet/36504142fc.pdf; ComponentLink3Description: Package Specification; ComponentLink3URL: http://cds.linear.com/docs/en/packaging/DFN_12_05-08-1725.pdf
footprint LT-DD-12_V (SON, 12-Leads, Body 3x3mm, Pitch 0.45mm, Thermal Pad 2.38x1.65mm)
pins: 1 VIN (power) "Charger Input Supply. VIN pin operating range is 4.75V to 32V. VIN >= 7.5V or (VBOOST - VSW) > 2V is required for start-up. IVIN = 85uA after charge termination", 2 CLP (in) "System Current Limit Input. System current levels can be monitored by connecting the input power supply to the CLP pin and connecting a sense resistor from the CLP pin to the VIN pin. Additional system load is drawn from the (See Datasheet)", 3 ~{SHDN} (in) "Precision Threshold Shutdown Pin. The enable threshold is 1.225V (rising), with 120mV of input hysteresis. When in shutdown mode, all charging functions are disabled. The precision threshold allows use of the S\H\D\N\ pin to (See Datasheet)", 4 ~{CHRG} (hiz) "Open-Collector Charger Status Output; typically pulled up through a resistor to a reference voltage. This status pin can be pulled up to voltages as high as VIN when disabled, and can sink currents up to 10mA when enabled. (See Datasheet)", 5 ~{FAULT} (hiz) "Open-Collector Fault Status Output; typically pulled up through a resistor to a reference voltage. This status pin can be pulled up to voltages as high as VIN when disabled, and can sink currents up to 10mA when enabled. (See Datasheet)", 6 TIMER (in) "End-Of-Cycle Timer Programming Pin. If a timer-based charge termination is desired, connect a capacitor from this pin to ground. Full charge end-ofcycle time (in hours) is programmed with this capacitor following the (See Datasheet)", 7 RNG/SS (in) "Charge Current Programming Pin. This pin allows a dynamic adjustment of the maximum charge current, and can be used to employ a soft-start function. Maximum charge current is adjusted by setting the voltage on this pin, such (See Datasheet)", 8 NTC (in) "Battery Temperature Monitor Pin. This pin is the input to the NTC (negative temperature coefficient) thermistor temperature monitoring circuit. This function is enabled by connecting a 10kohm, B = 3380 NTC thermistor from (See Datasheet)", 9 BAT (in) "Battery Voltage Monitor Pin. Connect 10uF decoupling capacitance (CBAT) from this pin to ground. Depending on application requirements, larger value decoupling capacitors may be required (see the Application Information (See Datasheet)", 10 SENSE (in) "Charge Current Sense Pin. Connect the more positive voltage end of the inductor sense resistor (RSENSE) to the SENSE pin and the other end to the BAT pin. The voltage across this resistor sets the average charge current. The (See Datasheet)", 11 BOOST "Bootstrapped Supply Rail for Switch Drive. This pin facilitates saturation of the switch transistor. Connect a 1uF or greater capacitor from the BOOST pin to the SW pin. Operating range of this pin is 0V to 4.5V, referenced (See Datasheet)", 12 SW (power) "Switch Output Pin. This pin is the output of the charger switch, and corresponds to the emitter of the switch transistor. When enabled, the switch shorts the SW pin to the VIN supply. The drive circuitry for this switch is (See Datasheet)", 13 EP (power) "Ground Reference and Backside Exposed Lead Frame Thermal Connection. Solder the exposed lead frame to the PCB ground plane"

## LT3650EDD-4.2#TRPBF
designator U?
High Voltage 2 Amplifier Monolithic 1-Cell Li-Ion Battery Charger, 4.75 to 32 V Vin, 12-pin SON (DD-12), -40 to 85 degC, Pb-Free, Tape and Reel; Manufacturer: Linear Technology; PartNumber: LT3650EDD-4.2#TRPBF; Battery Chemistry: Li-Ion, Li-Polymer; Charge Termination: C/10, Timer; Float Voltage: 4.2 V; Max Charge Current(A): 2; Number of Cells: 1; Type of Charger: Switching; Vin Max(V): 32; Vin Min(V): 4.75; DatasheetVersion: Rev. C; PackageVersion: Rev. A, 06/2010; PackageReference: DD-12; PackageDescription: 12-Pin Plastic DFN, Body 3 x 3 mm, Pitch 0.45 mm; Supplier 1: Digi-Key; Supplier Part Number 1: LT3650EDD-4.2#TRPBF-ND; Packing: Tape and Reel; RoHS: TRUE; Mounting Technology: Surface Mount; ComponentLink1Description: Manufacturer URL; ComponentLink1URL: http://www.linear.com/; ComponentLink2Description: Datasheet; ComponentLink2URL: http://cds.linear.com/docs/en/datasheet/36504142fc.pdf; ComponentLink3Description: Package Specification; ComponentLink3URL: http://cds.linear.com/docs/en/packaging/DFN_12_05-08-1725.pdf
footprint LT-DD-12_V (SON, 12-Leads, Body 3x3mm, Pitch 0.45mm, Thermal Pad 2.38x1.65mm)
pins: 1 VIN (power) "Charger Input Supply. VIN pin operating range is 4.75V to 32V. VIN >= 7.5V or (VBOOST - VSW) > 2V is required for start-up. IVIN = 85uA after charge termination", 2 CLP (in) "System Current Limit Input. System current levels can be monitored by connecting the input power supply to the CLP pin and connecting a sense resistor from the CLP pin to the VIN pin. Additional system load is drawn from the (See Datasheet)", 3 ~{SHDN} (in) "Precision Threshold Shutdown Pin. The enable threshold is 1.225V (rising), with 120mV of input hysteresis. When in shutdown mode, all charging functions are disabled. The precision threshold allows use of the S\H\D\N\ pin to (See Datasheet)", 4 ~{CHRG} (hiz) "Open-Collector Charger Status Output; typically pulled up through a resistor to a reference voltage. This status pin can be pulled up to voltages as high as VIN when disabled, and can sink currents up to 10mA when enabled. (See Datasheet)", 5 ~{FAULT} (hiz) "Open-Collector Fault Status Output; typically pulled up through a resistor to a reference voltage. This status pin can be pulled up to voltages as high as VIN when disabled, and can sink currents up to 10mA when enabled. (See Datasheet)", 6 TIMER (in) "End-Of-Cycle Timer Programming Pin. If a timer-based charge termination is desired, connect a capacitor from this pin to ground. Full charge end-ofcycle time (in hours) is programmed with this capacitor following the (See Datasheet)", 7 RNG/SS (in) "Charge Current Programming Pin. This pin allows a dynamic adjustment of the maximum charge current, and can be used to employ a soft-start function. Maximum charge current is adjusted by setting the voltage on this pin, such (See Datasheet)", 8 NTC (in) "Battery Temperature Monitor Pin. This pin is the input to the NTC (negative temperature coefficient) thermistor temperature monitoring circuit. This function is enabled by connecting a 10kohm, B = 3380 NTC thermistor from (See Datasheet)", 9 BAT (in) "Battery Voltage Monitor Pin. Connect 10uF decoupling capacitance (CBAT) from this pin to ground. Depending on application requirements, larger value decoupling capacitors may be required (see the Application Information (See Datasheet)", 10 SENSE (in) "Charge Current Sense Pin. Connect the more positive voltage end of the inductor sense resistor (RSENSE) to the SENSE pin and the other end to the BAT pin. The voltage across this resistor sets the average charge current. The (See Datasheet)", 11 BOOST "Bootstrapped Supply Rail for Switch Drive. This pin facilitates saturation of the switch transistor. Connect a 1uF or greater capacitor from the BOOST pin to the SW pin. Operating range of this pin is 0V to 4.5V, referenced (See Datasheet)", 12 SW (power) "Switch Output Pin. This pin is the output of the charger switch, and corresponds to the emitter of the switch transistor. When enabled, the switch shorts the SW pin to the VIN supply. The drive circuitry for this switch is (See Datasheet)", 13 EP (power) "Ground Reference and Backside Exposed Lead Frame Thermal Connection. Solder the exposed lead frame to the PCB ground plane"